# EAGLE library part LEVEL_CONVERTER_2L (library my_devices)
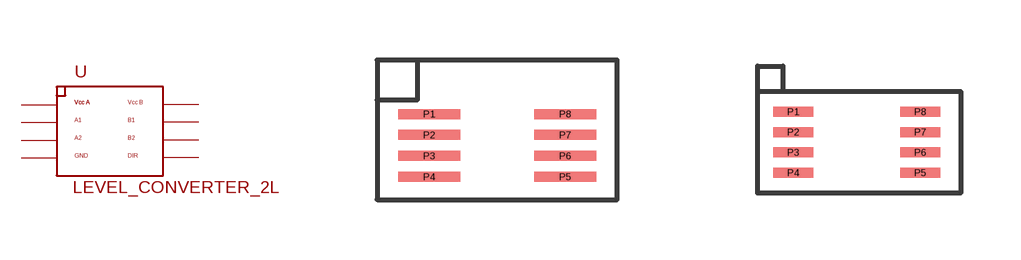
[diagram p19: symbol with the pads of VSSOP-8; footprints VSSOP-8, R-PDSO-G8]

Designator prefix U

## LEVEL_CONVERTER_2L  [VSSOP-8]
P1  VCCA  sup
P2  A1
P3  A2
P4  GND  sup
P5  DIR
P6  B2
P7  B1
P8  VCCB  sup

## LEVEL_CONVERTER_2LR-PDSO-G8  [R-PDSO-G8]
Pads as for VSSOP-8

## Footprint VSSOP-8 (pad centres in mm)
smd 1.55 x 0.25: P1 -1.7,0.65; P2 -1.7,0.127; P3 -1.7,-0.396; P4 -1.7,-0.919; P5 1.7,-0.919; P6 1.7,-0.396; P7 1.7,0.127; P8 1.7,0.65

## Footprint R-PDSO-G8 (pad centres in mm)
smd 1 x 0.25: P1 -1.651,0.762; P2 -1.651,0.254; P3 -1.651,-0.254; P4 -1.651,-0.762; P5 1.524,-0.762; P6 1.524,-0.254; P7 1.524,0.254; P8 1.524,0.762